# EAGLE library part SN65HVD233DR (library LARS_409_MC)
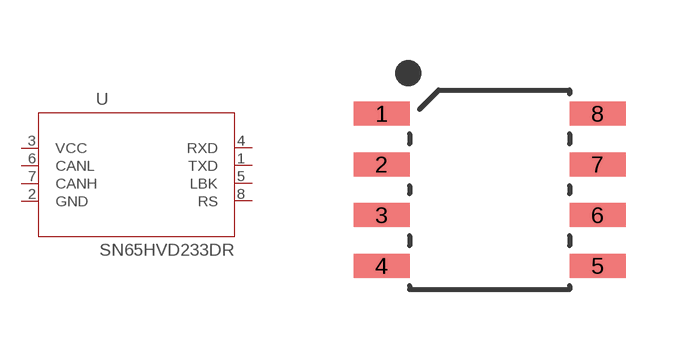
[diagram p3: symbol with the pads of SOIC-8; footprint SOIC-8]

Designator prefix U

## SN65HVD233DRU  [SOIC-8]
1  TXD
2  GND
3  VCC
4  RXD
5  LBK
6  CANL
7  CANH
8  RS

## Footprint SOIC-8 (pad centres in mm)
8-SOIC, 1.27 mm pitch, 6.00 mm span, 4.90 X 4.90 X 1.50 mm body 8-pin SOIC package with 1.27 mm pitch, 6.00 mm span with body size 4.90 X 4.90 X 1.50 mm
smd 1.4 x 0.6: 1 -2.7,1.905; 2 -2.7,0.635; 3 -2.7,-0.635; 4 -2.7,-1.905; 5 2.7,-1.905; 6 2.7,-0.635; 7 2.7,0.635; 8 2.7,1.905